# EAGLE library part DPS310_INFINEON (library My_INFINEON)
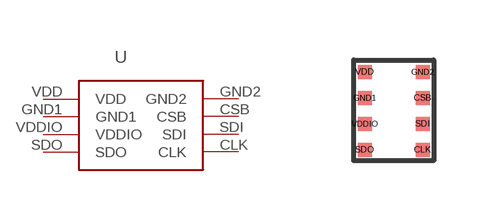
[diagram p0: symbol with the pads of DSP310; footprint DSP310]

Designator prefix -

## DPS310_INFINEON  [DSP310]
CLK  CLK
CSB  CSB
GND1  GND1
GND2  GND2
SDI  SDI
SDO  SDO
VDD  VDD
VDDIO  VDDIO

## Footprint DSP310 (pad centres in mm)
smd 0.35 x 0.35: CLK 0.725,-0.975; CSB 0.725,0.325; GND1 -0.725,0.325; GND2 0.725,0.975; SDI 0.725,-0.325; SDO -0.725,-0.975; VDD -0.725,0.975; VDDIO -0.725,-0.325